# EAGLE library part RASPBERRY_PI_CM1/3 (library FlashPCB_DevBoards)
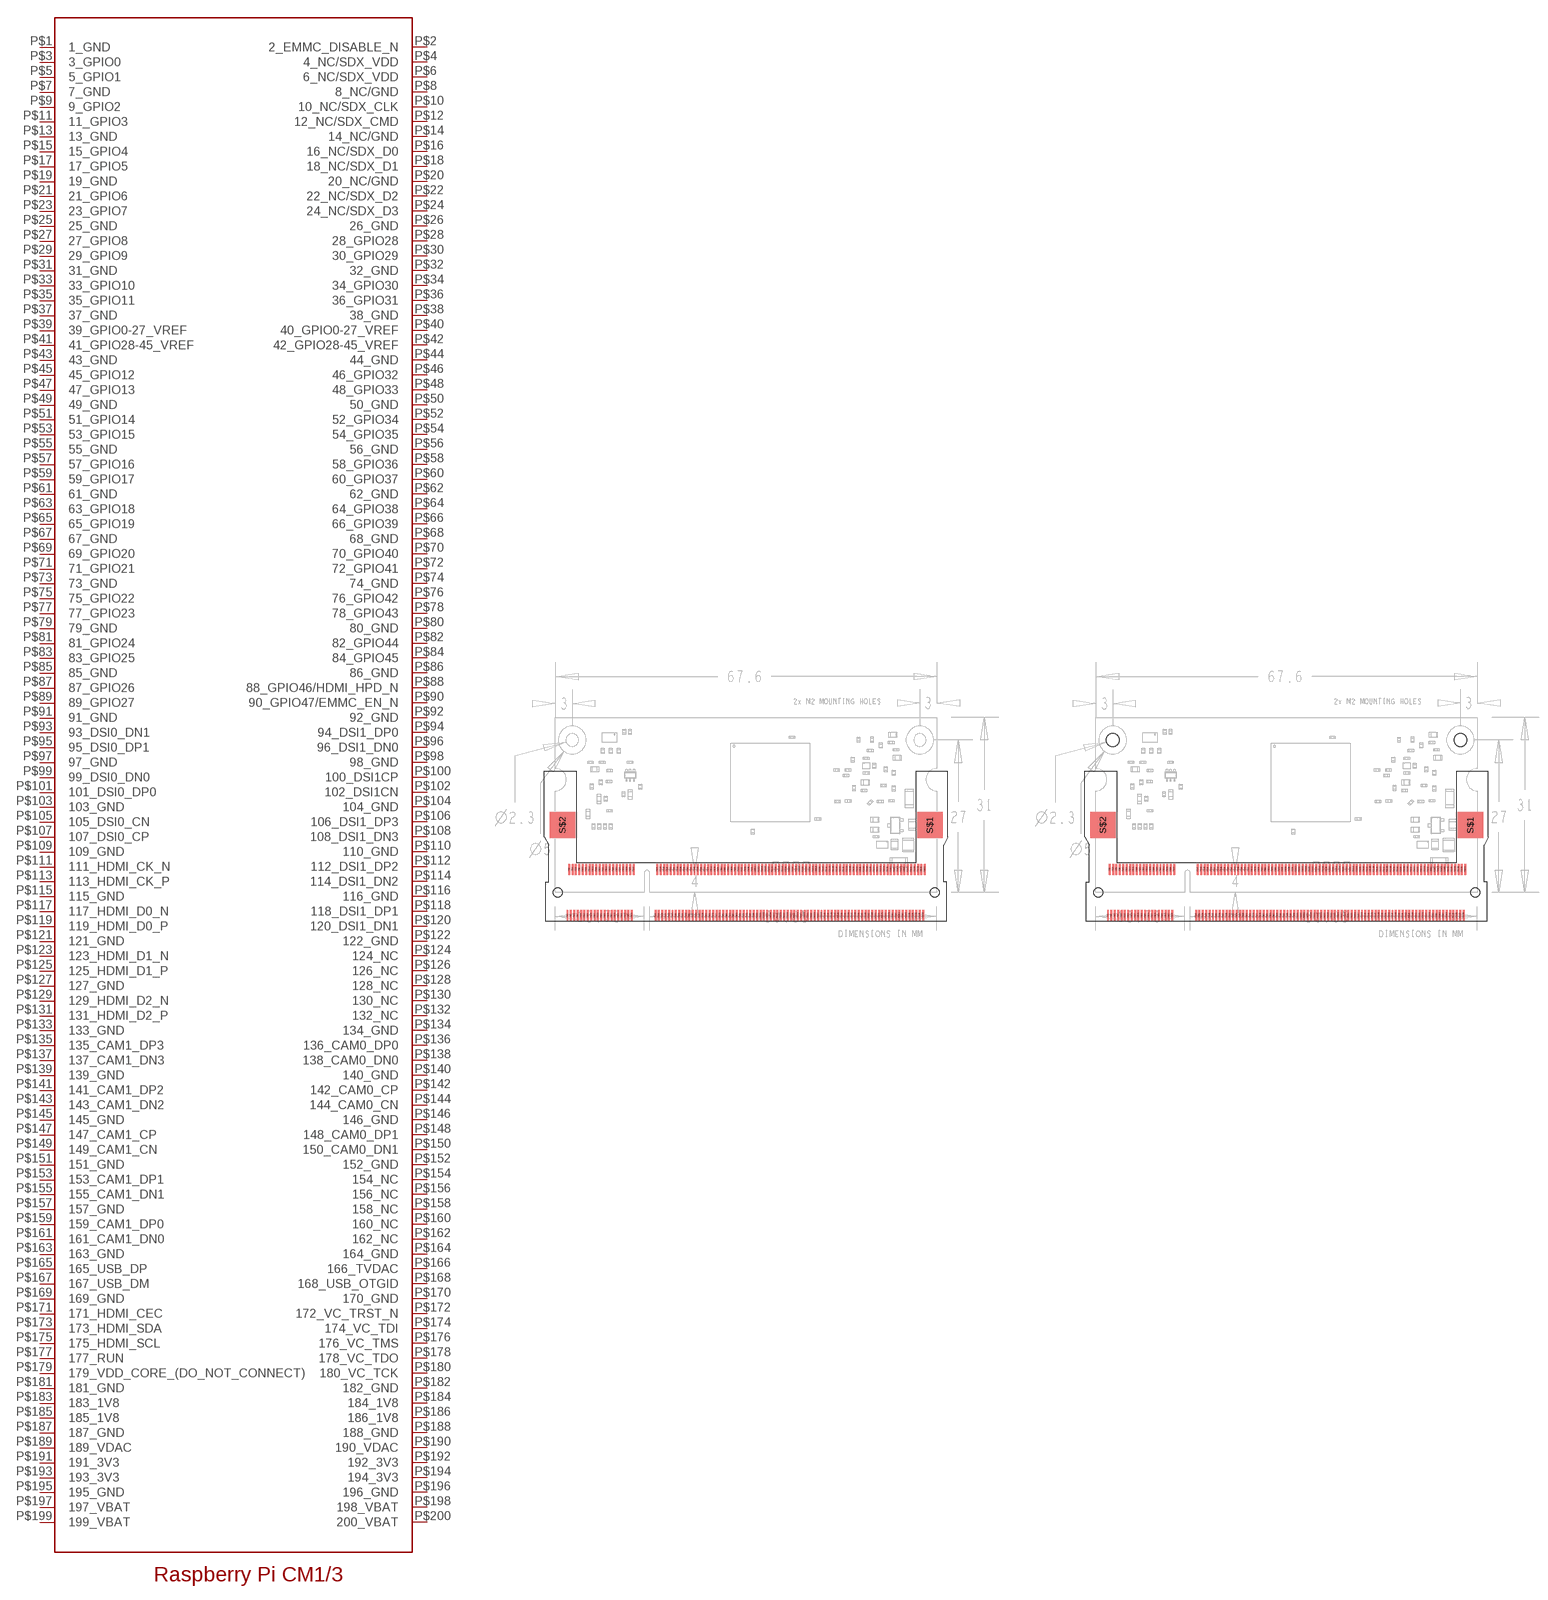
[diagram p8: symbol with the pads of RASPBERRY_PI_CM3/1; footprints RASPBERRY_PI_CM3/1, RASPBERRY_PI_CM3/1_MOUNTHOLES]

Designator prefix U

## RASPBERRY_PI_CM1/3  [RASPBERRY_PI_CM3/1]
P$1  1_GND
P$2  2_EMMC_DISABLE_N
P$3  3_GPIO0
P$4  4_NC/SDX_VDD
P$5  5_GPIO1
P$6  6_NC/SDX_VDD
P$7  7_GND
P$8  8_NC/GND
P$9  9_GPIO2
P$10  10_NC/SDX_CLK
P$11  11_GPIO3
P$12  12_NC/SDX_CMD
P$13  13_GND
P$14  14_NC/GND
P$15  15_GPIO4
P$16  16_NC/SDX_D0
P$17  17_GPIO5
P$18  18_NC/SDX_D1
P$19  19_GND
P$20  20_NC/GND
P$21  21_GPIO6
P$22  22_NC/SDX_D2
P$23  23_GPIO7
P$24  24_NC/SDX_D3
P$25  25_GND
P$26  26_GND
P$27  27_GPIO8
P$28  28_GPIO28
P$29  29_GPIO9
P$30  30_GPIO29
P$31  31_GND
P$32  32_GND
P$33  33_GPIO10
P$34  34_GPIO30
P$35  35_GPIO11
P$36  36_GPIO31
P$37  37_GND
P$38  38_GND
P$39  39_GPIO0-27_VREF
P$40  40_GPIO0-27_VREF
P$41  41_GPIO28-45_VREF
P$42  42_GPIO28-45_VREF
P$43  43_GND
P$44  44_GND
P$45  45_GPIO12
P$46  46_GPIO32
P$47  47_GPIO13
P$48  48_GPIO33
P$49  49_GND
P$50  50_GND
P$51  51_GPIO14
P$52  52_GPIO34
P$53  53_GPIO15
P$54  54_GPIO35
P$55  55_GND
P$56  56_GND
P$57  57_GPIO16
P$58  58_GPIO36
P$59  59_GPIO17
P$60  60_GPIO37
P$61  61_GND
P$62  62_GND
P$63  63_GPIO18
P$64  64_GPIO38
P$65  65_GPIO19
P$66  66_GPIO39
P$67  67_GND
P$68  68_GND
P$69  69_GPIO20
P$70  70_GPIO40
P$71  71_GPIO21
P$72  72_GPIO41
P$73  73_GND
P$74  74_GND
P$75  75_GPIO22
P$76  76_GPIO42
P$77  77_GPIO23
P$78  78_GPIO43
P$79  79_GND
P$80  80_GND
P$81  81_GPIO24
P$82  82_GPIO44
P$83  83_GPIO25
P$84  84_GPIO45
P$85  85_GND
P$86  86_GND
P$87  87_GPIO26
P$88  88_GPIO46/HDMI_HPD_N
P$89  89_GPIO27
P$90  90_GPIO47/EMMC_EN_N
P$91  91_GND
P$92  92_GND
P$93  93_DSI0_DN1
P$94  94_DSI1_DP0
P$95  95_DSI0_DP1
P$96  96_DSI1_DN0
P$97  97_GND
P$98  98_GND
P$99  99_DSI0_DN0
P$100  100_DSI1CP
P$101  101_DSI0_DP0
P$102  102_DSI1CN
P$103  103_GND
P$104  104_GND
P$105  105_DSI0_CN
P$106  106_DSI1_DP3
P$107  107_DSI0_CP
P$108  108_DSI1_DN3
P$109  109_GND
P$110  110_GND
P$111  111_HDMI_CK_N
P$112  112_DSI1_DP2
P$113  113_HDMI_CK_P
P$114  114_DSI1_DN2
P$115  115_GND
P$116  116_GND
P$117  117_HDMI_D0_N
P$118  118_DSI1_DP1
P$119  119_HDMI_D0_P
P$120  120_DSI1_DN1
P$121  121_GND
P$122  122_GND
P$123  123_HDMI_D1_N
P$124  124_NC
P$125  125_HDMI_D1_P
P$126  126_NC
P$127  127_GND
P$128  128_NC
P$129  129_HDMI_D2_N
P$130  130_NC
P$131  131_HDMI_D2_P
P$132  132_NC
P$133  133_GND
P$134  134_GND
P$135  135_CAM1_DP3
P$136  136_CAM0_DP0
P$137  137_CAM1_DN3
P$138  138_CAM0_DN0
P$139  139_GND
P$140  140_GND
P$141  141_CAM1_DP2
P$142  142_CAM0_CP
P$143  143_CAM1_DN2
P$144  144_CAM0_CN
P$145  145_GND
P$146  146_GND
P$147  147_CAM1_CP
P$148  148_CAM0_DP1
P$149  149_CAM1_CN
P$150  150_CAM0_DN1
P$151  151_GND
P$152  152_GND
P$153  153_CAM1_DP1
P$154  154_NC
P$155  155_CAM1_DN1
P$156  156_NC
P$157  157_GND
P$158  158_NC
P$159  159_CAM1_DP0
P$160  160_NC
P$161  161_CAM1_DN0
P$162  162_NC
P$163  163_GND
P$164  164_GND
P$165  165_USB_DP
P$166  166_TVDAC
P$167  167_USB_DM
P$168  168_USB_OTGID
P$169  169_GND
P$170  170_GND
P$171  171_HDMI_CEC
P$172  172_VC_TRST_N
P$173  173_HDMI_SDA
P$174  174_VC_TDI
P$175  175_HDMI_SCL
P$176  176_VC_TMS
P$177  177_RUN
P$178  178_VC_TDO
P$179  179_VDD_CORE_(DO_NOT_CONNECT)
P$180  180_VC_TCK
P$181  181_GND
P$182  182_GND
P$183  183_1V8
P$184  184_1V8
P$185  185_1V8
P$186  186_1V8
P$187  187_GND
P$188  188_GND
P$189  189_VDAC
P$190  190_VDAC
P$191  191_3V3
P$192  192_3V3
P$193  193_3V3
P$194  194_3V3
P$195  195_GND
P$196  196_GND
P$197  197_VBAT
P$198  198_VBAT
P$199  199_VBAT
P$200  200_VBAT

## RASPBERRY_PI_CM1/3MOUNT_HOLES  [RASPBERRY_PI_CM3/1_MOUNTHOLES]
Pads as for RASPBERRY_PI_CM3/1

## Footprint RASPBERRY_PI_CM3/1 (pad centres in mm)
kitID='6345d01a49babf92f296249a'
smd 0.35 x 2: P$1 -31.65,-4.1; P$2 -31.35,4.1; P$3 -31.05,-4.1; P$4 -30.75,4.1; P$5 -30.45,-4.1; P$6 -30.15,4.1; P$7 -29.85,-4.1; P$8 -29.55,4.1; P$9 -29.25,-4.1; P$10 -28.95,4.1; P$11 -28.65,-4.1; P$12 -28.35,4.1; P$13 -28.05,-4.1; P$14 -27.75,4.1; P$15 -27.45,-4.1; P$16 -27.15,4.1; P$17 -26.85,-4.1; P$18 -26.55,4.1; P$19 -26.25,-4.1; P$20 -25.95,4.1; P$21 -25.65,-4.1; P$22 -25.35,4.1; P$23 -25.05,-4.1; P$24 -24.75,4.1; P$25 -24.45,-4.1; P$26 -24.15,4.1; P$27 -23.85,-4.1; P$28 -23.55,4.1; P$29 -23.25,-4.1; P$30 -22.95,4.1; P$31 -22.65,-4.1; P$32 -22.35,4.1; P$33 -22.05,-4.1; P$34 -21.75,4.1; P$35 -21.45,-4.1; P$36 -21.15,4.1; P$37 -20.85,-4.1; P$38 -20.55,4.1; P$39 -20.25,-4.1; P$40 -19.95,4.1; P$41 -16.05,-4.1; P$42 -15.75,4.1; P$43 -15.45,-4.1; P$44 -15.15,4.1; P$45 -14.85,-4.1; P$46 -14.55,4.1; P$47 -14.25,-4.1; P$48 -13.95,4.1; P$49 -13.65,-4.1; P$50 -13.35,4.1; P$51 -13.05,-4.1; P$52 -12.75,4.1; P$53 -12.45,-4.1; P$54 -12.15,4.1; P$55 -11.85,-4.1; P$56 -11.55,4.1; P$57 -11.25,-4.1; P$58 -10.95,4.1; P$59 -10.65,-4.1; P$60 -10.35,4.1; P$61 -10.05,-4.1; P$62 -9.75,4.1; P$63 -9.45,-4.1; P$64 -9.15,4.1; P$65 -8.85,-4.1; P$66 -8.55,4.1; P$67 -8.25,-4.1; P$68 -7.95,4.1; P$69 -7.65,-4.1; P$70 -7.35,4.1; P$71 -7.05,-4.1; P$72 -6.75,4.1; P$73 -6.45,-4.1; P$74 -6.15,4.1; P$75 -5.85,-4.1; P$76 -5.55,4.1; P$77 -5.25,-4.1; P$78 -4.95,4.1; P$79 -4.65,-4.1; P$80 -4.35,4.1; P$81 -4.05,-4.1; P$82 -3.75,4.1; P$83 -3.45,-4.1; P$84 -3.15,4.1; P$85 -2.85,-4.1; P$86 -2.55,4.1; P$87 -2.25,-4.1; P$88 -1.95,4.1; P$89 -1.65,-4.1; P$90 -1.35,4.1; P$91 -1.05,-4.1; P$92 -0.75,4.1; P$93 -0.45,-4.1; P$94 -0.15,4.1; P$95 0.15,-4.1; P$96 0.45,4.1; P$97 0.75,-4.1; P$98 1.05,4.1; P$99 1.35,-4.1; P$100 1.65,4.1; P$101 1.95,-4.1; P$102 2.25,4.1; P$103 2.55,-4.1; P$104 2.85,4.1; P$105 3.15,-4.1; P$106 3.45,4.1; P$107 3.75,-4.1; P$108 4.05,4.1; P$109 4.35,-4.1; P$110 4.65,4.1; P$111 4.95,-4.1; P$112 5.25,4.1; P$113 5.55,-4.1; P$114 5.85,4.1; P$115 6.15,-4.1; P$116 6.45,4.1; P$117 6.75,-4.1; P$118 7.05,4.1; P$119 7.35,-4.1; P$120 7.65,4.1; P$121 7.95,-4.1; P$122 8.25,4.1; P$123 8.55,-4.1; P$124 8.85,4.1; P$125 9.15,-4.1; P$126 9.45,4.1; P$127 9.75,-4.1; P$128 10.05,4.1; P$129 10.35,-4.1; P$130 10.65,4.1; P$131 10.95,-4.1; P$132 11.25,4.1; P$133 11.55,-4.1; P$134 11.85,4.1; P$135 12.15,-4.1; P$136 12.45,4.1; P$137 12.75,-4.1; P$138 13.05,4.1; P$139 13.35,-4.1; P$140 13.65,4.1; P$141 13.95,-4.1; P$142 14.25,4.1; P$143 14.55,-4.1; P$144 14.85,4.1; P$145 15.15,-4.1; P$146 15.45,4.1; P$147 15.75,-4.1; P$148 16.05,4.1; P$149 16.35,-4.1; P$150 16.65,4.1; P$151 16.95,-4.1; P$152 17.25,4.1; P$153 17.55,-4.1; P$154 17.85,4.1; P$155 18.15,-4.1; P$156 18.45,4.1; P$157 18.75,-4.1; P$158 19.05,4.1; P$159 19.35,-4.1; P$160 19.65,4.1; P$161 19.95,-4.1; P$162 20.25,4.1; P$163 20.55,-4.1; P$164 20.85,4.1; P$165 21.15,-4.1; P$166 21.45,4.1; P$167 21.75,-4.1; P$168 22.05,4.1; P$169 22.35,-4.1; P$170 22.65,4.1; P$171 22.95,-4.1; P$172 23.25,4.1; P$173 23.55,-4.1; P$174 23.85,4.1; P$175 24.15,-4.1; P$176 24.45,4.1; P$177 24.75,-4.1; P$178 25.05,4.1; P$179 25.35,-4.1; P$180 25.65,4.1; P$181 25.95,-4.1; P$182 26.25,4.1; P$183 26.55,-4.1; P$184 26.85,4.1; P$185 27.15,-4.1; P$186 27.45,4.1; P$187 27.75,-4.1; P$188 28.05,4.1; P$189 28.35,-4.1; P$190 28.65,4.1; P$191 28.95,-4.1; P$192 29.25,4.1; P$193 29.55,-4.1; P$194 29.85,4.1; P$195 30.15,-4.1; P$196 30.45,4.1; P$197 30.75,-4.1; P$198 31.05,4.1; P$199 31.35,-4.1; P$200 31.65,4.1
smd 4.5 x 4.6: S$1 32.55,12; S$2 -32.55,12
hole 1.6 at -33.4,0
hole 1.6 at 33.4,0

## Footprint RASPBERRY_PI_CM3/1_MOUNTHOLES (pad centres in mm)
kitID='6345d01b49babf92f296249c'
smd 0.35 x 2: P$1 -31.65,-4.1; P$2 -31.35,4.1; P$3 -31.05,-4.1; P$4 -30.75,4.1; P$5 -30.45,-4.1; P$6 -30.15,4.1; P$7 -29.85,-4.1; P$8 -29.55,4.1; P$9 -29.25,-4.1; P$10 -28.95,4.1; P$11 -28.65,-4.1; P$12 -28.35,4.1; P$13 -28.05,-4.1; P$14 -27.75,4.1; P$15 -27.45,-4.1; P$16 -27.15,4.1; P$17 -26.85,-4.1; P$18 -26.55,4.1; P$19 -26.25,-4.1; P$20 -25.95,4.1; P$21 -25.65,-4.1; P$22 -25.35,4.1; P$23 -25.05,-4.1; P$24 -24.75,4.1; P$25 -24.45,-4.1; P$26 -24.15,4.1; P$27 -23.85,-4.1; P$28 -23.55,4.1; P$29 -23.25,-4.1; P$30 -22.95,4.1; P$31 -22.65,-4.1; P$32 -22.35,4.1; P$33 -22.05,-4.1; P$34 -21.75,4.1; P$35 -21.45,-4.1; P$36 -21.15,4.1; P$37 -20.85,-4.1; P$38 -20.55,4.1; P$39 -20.25,-4.1; P$40 -19.95,4.1; P$41 -16.05,-4.1; P$42 -15.75,4.1; P$43 -15.45,-4.1; P$44 -15.15,4.1; P$45 -14.85,-4.1; P$46 -14.55,4.1; P$47 -14.25,-4.1; P$48 -13.95,4.1; P$49 -13.65,-4.1; P$50 -13.35,4.1; P$51 -13.05,-4.1; P$52 -12.75,4.1; P$53 -12.45,-4.1; P$54 -12.15,4.1; P$55 -11.85,-4.1; P$56 -11.55,4.1; P$57 -11.25,-4.1; P$58 -10.95,4.1; P$59 -10.65,-4.1; P$60 -10.35,4.1; P$61 -10.05,-4.1; P$62 -9.75,4.1; P$63 -9.45,-4.1; P$64 -9.15,4.1; P$65 -8.85,-4.1; P$66 -8.55,4.1; P$67 -8.25,-4.1; P$68 -7.95,4.1; P$69 -7.65,-4.1; P$70 -7.35,4.1; P$71 -7.05,-4.1; P$72 -6.75,4.1; P$73 -6.45,-4.1; P$74 -6.15,4.1; P$75 -5.85,-4.1; P$76 -5.55,4.1; P$77 -5.25,-4.1; P$78 -4.95,4.1; P$79 -4.65,-4.1; P$80 -4.35,4.1; P$81 -4.05,-4.1; P$82 -3.75,4.1; P$83 -3.45,-4.1; P$84 -3.15,4.1; P$85 -2.85,-4.1; P$86 -2.55,4.1; P$87 -2.25,-4.1; P$88 -1.95,4.1; P$89 -1.65,-4.1; P$90 -1.35,4.1; P$91 -1.05,-4.1; P$92 -0.75,4.1; P$93 -0.45,-4.1; P$94 -0.15,4.1; P$95 0.15,-4.1; P$96 0.45,4.1; P$97 0.75,-4.1; P$98 1.05,4.1; P$99 1.35,-4.1; P$100 1.65,4.1; P$101 1.95,-4.1; P$102 2.25,4.1; P$103 2.55,-4.1; P$104 2.85,4.1; P$105 3.15,-4.1; P$106 3.45,4.1; P$107 3.75,-4.1; P$108 4.05,4.1; P$109 4.35,-4.1; P$110 4.65,4.1; P$111 4.95,-4.1; P$112 5.25,4.1; P$113 5.55,-4.1; P$114 5.85,4.1; P$115 6.15,-4.1; P$116 6.45,4.1; P$117 6.75,-4.1; P$118 7.05,4.1; P$119 7.35,-4.1; P$120 7.65,4.1; P$121 7.95,-4.1; P$122 8.25,4.1; P$123 8.55,-4.1; P$124 8.85,4.1; P$125 9.15,-4.1; P$126 9.45,4.1; P$127 9.75,-4.1; P$128 10.05,4.1; P$129 10.35,-4.1; P$130 10.65,4.1; P$131 10.95,-4.1; P$132 11.25,4.1; P$133 11.55,-4.1; P$134 11.85,4.1; P$135 12.15,-4.1; P$136 12.45,4.1; P$137 12.75,-4.1; P$138 13.05,4.1; P$139 13.35,-4.1; P$140 13.65,4.1; P$141 13.95,-4.1; P$142 14.25,4.1; P$143 14.55,-4.1; P$144 14.85,4.1; P$145 15.15,-4.1; P$146 15.45,4.1; P$147 15.75,-4.1; P$148 16.05,4.1; P$149 16.35,-4.1; P$150 16.65,4.1; P$151 16.95,-4.1; P$152 17.25,4.1; P$153 17.55,-4.1; P$154 17.85,4.1; P$155 18.15,-4.1; P$156 18.45,4.1; P$157 18.75,-4.1; P$158 19.05,4.1; P$159 19.35,-4.1; P$160 19.65,4.1; P$161 19.95,-4.1; P$162 20.25,4.1; P$163 20.55,-4.1; P$164 20.85,4.1; P$165 21.15,-4.1; P$166 21.45,4.1; P$167 21.75,-4.1; P$168 22.05,4.1; P$169 22.35,-4.1; P$170 22.65,4.1; P$171 22.95,-4.1; P$172 23.25,4.1; P$173 23.55,-4.1; P$174 23.85,4.1; P$175 24.15,-4.1; P$176 24.45,4.1; P$177 24.75,-4.1; P$178 25.05,4.1; P$179 25.35,-4.1; P$180 25.65,4.1; P$181 25.95,-4.1; P$182 26.25,4.1; P$183 26.55,-4.1; P$184 26.85,4.1; P$185 27.15,-4.1; P$186 27.45,4.1; P$187 27.75,-4.1; P$188 28.05,4.1; P$189 28.35,-4.1; P$190 28.65,4.1; P$191 28.95,-4.1; P$192 29.25,4.1; P$193 29.55,-4.1; P$194 29.85,4.1; P$195 30.15,-4.1; P$196 30.45,4.1; P$197 30.75,-4.1; P$198 31.05,4.1; P$199 31.35,-4.1; P$200 31.65,4.1
smd 4.5 x 4.6: S$1 32.55,12; S$2 -32.55,12
hole 1.6 at -33.4,0
hole 1.6 at 33.4,0
hole 2.3 at 30.8,27
hole 2.3 at -30.8,27